# EAGLE library part DSPIC33FJ256MC710PT (library DSPIC33FJ256MC710PT)
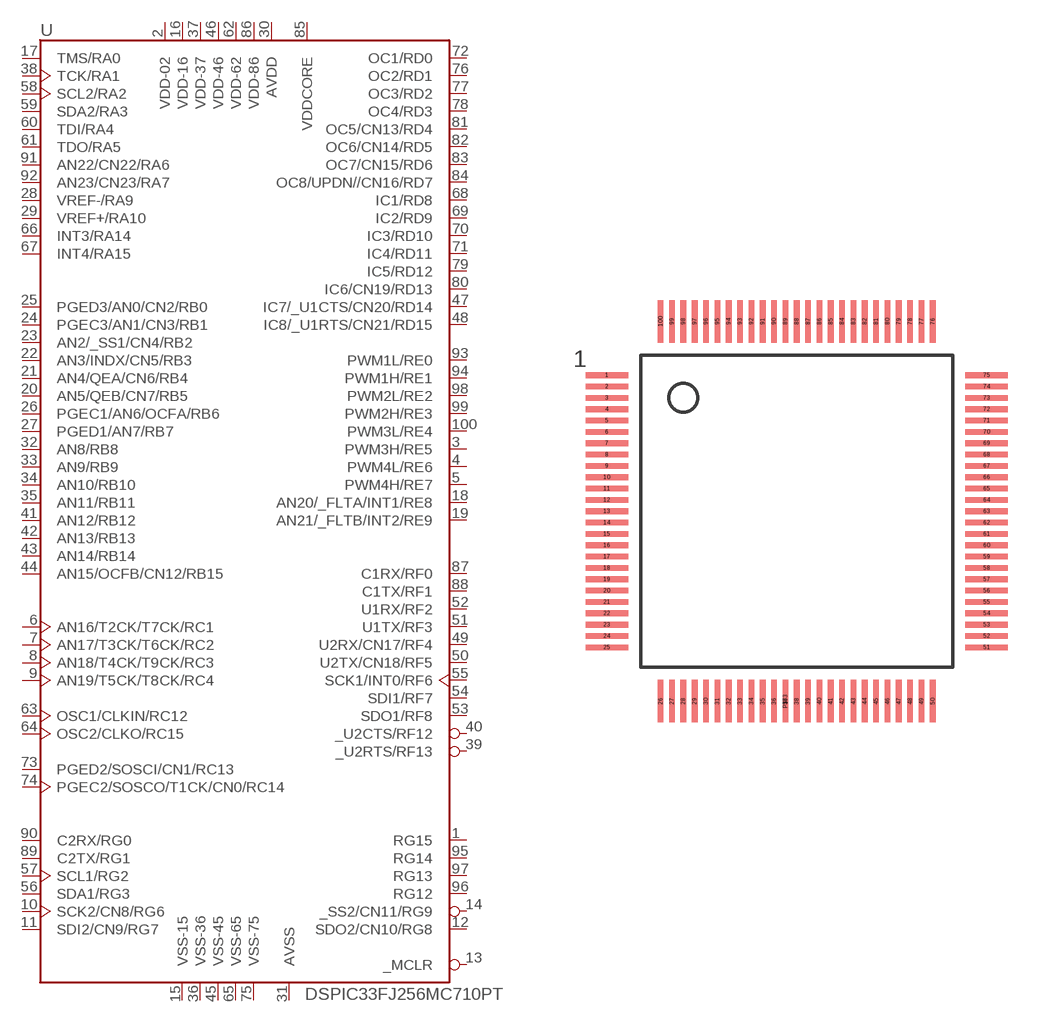
[diagram p0: symbol with the pads of DSPIC33FJ256MC710PT; footprint DSPIC33FJ256MC710PT]

Designator prefix -

## DSPIC33FJ256MC710PT  [DSPIC33FJ256MC710PT]
1  RG15
2  VDD-02
3  PWM3H/RE5
4  PWM4L/RE6
5  PWM4H/RE7
6  AN16/T2CK/T7CK/RC1
7  AN17/T3CK/T6CK/RC2
8  AN18/T4CK/T9CK/RC3
9  AN19/T5CK/T8CK/RC4
10  SCK2/CN8/RG6
11  SDI2/CN9/RG7
12  SDO2/CN10/RG8
13  _MCLR
14  _SS2/CN11/RG9
15  VSS-15
16  VDD-16
17  TMS/RA0
18  AN20/_FLTA/INT1/RE8
19  AN21/_FLTB/INT2/RE9
20  AN5/QEB/CN7/RB5
21  AN4/QEA/CN6/RB4
22  AN3/INDX/CN5/RB3
23  AN2/_SS1/CN4/RB2
24  PGEC3/AN1/CN3/RB1
25  PGED3/AN0/CN2/RB0
26  PGEC1/AN6/OCFA/RB6
27  PGED1/AN7/RB7
28  VREF-/RA9
29  VREF+/RA10
30  AVDD
31  AVSS
32  AN8/RB8
33  AN9/RB9
34  AN10/RB10
35  AN11/RB11
36  VSS-36
37  VDD-37
38  TCK/RA1
39  _U2RTS/RF13
40  _U2CTS/RF12
41  AN12/RB12
42  AN13/RB13
43  AN14/RB14
44  AN15/OCFB/CN12/RB15
45  VSS-45
46  VDD-46
47  IC7/_U1CTS/CN20/RD14
48  IC8/_U1RTS/CN21/RD15
49  U2RX/CN17/RF4
50  U2TX/CN18/RF5
51  U1TX/RF3
52  U1RX/RF2
53  SDO1/RF8
54  SDI1/RF7
55  SCK1/INT0/RF6
56  SDA1/RG3
57  SCL1/RG2
58  SCL2/RA2
59  SDA2/RA3
60  TDI/RA4
61  TDO/RA5
62  VDD-62
63  OSC1/CLKIN/RC12
64  OSC2/CLKO/RC15
65  VSS-65
66  INT3/RA14
67  INT4/RA15
68  IC1/RD8
69  IC2/RD9
70  IC3/RD10
71  IC4/RD11
72  OC1/RD0
73  PGED2/SOSCI/CN1/RC13
74  PGEC2/SOSCO/T1CK/CN0/RC14
75  VSS-75
76  OC2/RD1
77  OC3/RD2
78  OC4/RD3
79  IC5/RD12
80  IC6/CN19/RD13
81  OC5/CN13/RD4
82  OC6/CN14/RD5
83  OC7/CN15/RD6
84  OC8/UPDN//CN16/RD7
85  VDDCORE
86  VDD-86
87  C1RX/RF0
88  C1TX/RF1
89  C2TX/RG1
90  C2RX/RG0
91  AN22/CN22/RA6
92  AN23/CN23/RA7
93  PWM1L/RE0
94  PWM1H/RE1
95  RG14
96  RG12
97  RG13
98  PWM2L/RE2
99  PWM2H/RE3
100  PWM3L/RE4

## Footprint DSPIC33FJ256MC710PT (pad centres in mm)
smd 1.5 x 0.2: 1 -6.7,4.8; 2 -6.7,4.4; 3 -6.7,4; 4 -6.7,3.6; 5 -6.7,3.2; 6 -6.7,2.8; 7 -6.7,2.4; 8 -6.7,2; 9 -6.7,1.6; 10 -6.7,1.2; 11 -6.7,0.8; 12 -6.7,0.4; 13 -6.7,0; 14 -6.7,-0.4; 15 -6.7,-0.8; 16 -6.7,-1.2; 17 -6.7,-1.6; 18 -6.7,-2; 19 -6.7,-2.4; 20 -6.7,-2.8; 21 -6.7,-3.2; 22 -6.7,-3.6; 23 -6.7,-4; 24 -6.7,-4.4; 25 -6.7,-4.8; 51 6.7,-4.8; 52 6.7,-4.4; 53 6.7,-4; 54 6.7,-3.6; 55 6.7,-3.2; 56 6.7,-2.8; 57 6.7,-2.4; 58 6.7,-2; 59 6.7,-1.6; 60 6.7,-1.2; 61 6.7,-0.8; 62 6.7,-0.4; 63 6.7,0; 64 6.7,0.4; 65 6.7,0.8; 66 6.7,1.2; 67 6.7,1.6; 68 6.7,2; 69 6.7,2.4; 70 6.7,2.8; 71 6.7,3.2; 72 6.7,3.6; 73 6.7,4; 74 6.7,4.4; 75 6.7,4.8
smd 0.2 x 1.5: 26 -4.8,-6.7; 27 -4.4,-6.7; 28 -4,-6.7; 29 -3.6,-6.7; 30 -3.2,-6.7; 31 -2.8,-6.7; 32 -2.4,-6.7; 33 -2,-6.7; 34 -1.6,-6.7; 35 -1.2,-6.7; 36 -0.8,-6.7; 37 -0.4,-6.7; 38 0,-6.7; 39 0.4,-6.7; 40 0.8,-6.7; 41 1.2,-6.7; 42 1.6,-6.7; 43 2,-6.7; 44 2.4,-6.7; 45 2.8,-6.7; 46 3.2,-6.7; 47 3.6,-6.7; 48 4,-6.7; 49 4.4,-6.7; 50 4.8,-6.7; 76 4.8,6.7; 77 4.4,6.7; 78 4,6.7; 79 3.6,6.7; 80 3.2,6.7; 81 2.8,6.7; 82 2.4,6.7; 83 2,6.7; 84 1.6,6.7; 85 1.2,6.7; 86 0.8,6.7; 87 0.4,6.7; 88 0,6.7; 89 -0.4,6.7; 90 -0.8,6.7; 91 -1.2,6.7; 92 -1.6,6.7; 93 -2,6.7; 94 -2.4,6.7; 95 -2.8,6.7; 96 -3.2,6.7; 97 -3.6,6.7; 98 -4,6.7; 99 -4.4,6.7; 100 -4.8,6.7; P$63 -0.4,-6.7